# Altium footprint library SOD-57.PcbLib: 1 footprints
Each footprint in its own frame and in the unit in brackets; x right, y up, seen from the top. Pads: shape width x height; smd on the part's side, far side on the other; paste and mask are expansions set on the pad; w line width, h text height; cw(c..) or ccw(c..) is an arc to the next point about the centre after c.
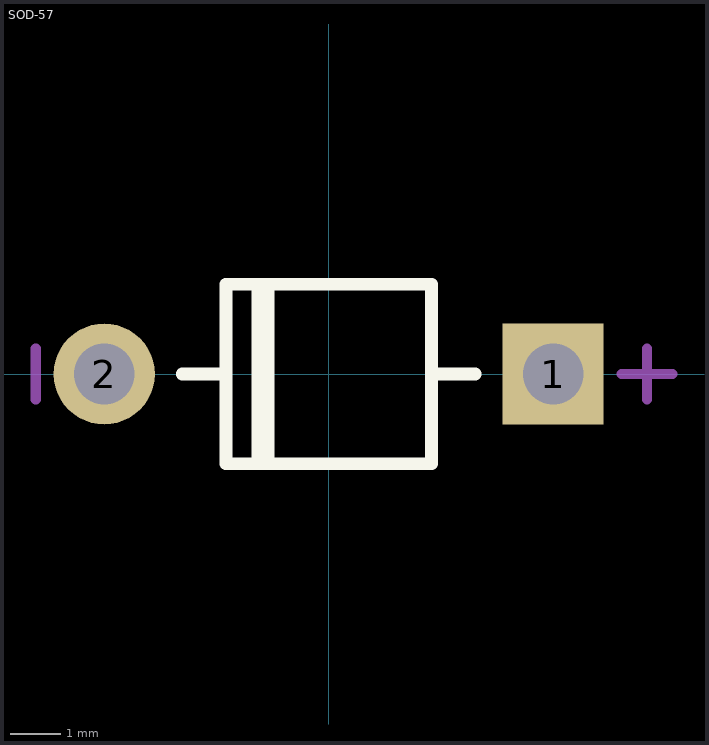
[diagram p0: the footprint, top view; thin cyan lines are the x and y axes]

## SOD-57 [mm]
pads (2):
  rect 2x2 hole 1.2: 1(4.445,0)
  round 2 hole 1.2: 2(-4.445,0)
Top Overlay:
  lines w0.254: -2.9,0 -2.032,0 ; -1.4,-1.778 -1.4,1.778 ; -1.2,-1.778 -1.2,1.778 ; 2.032,0 2.9,0 ; -2.032,-1.778 -2.032,1.778 2.032,1.778 2.032,-1.778 -2.032,-1.778
Mechanical 15:
  lines w0.203: -5.8,-0.5 -5.8,0.5 ; 5.8,0 6.8,0 ; 6.3,-0.5 6.3,0.5